# EAGLE library part ICS-43432 (library Microphone)
MIC MEMS DIGITAL I2S OMNI -26DB Manufacturer's datasheet <http://www.invensense.com/wp-content/uploads/2015/02/ICS-43432_DS.pdf>
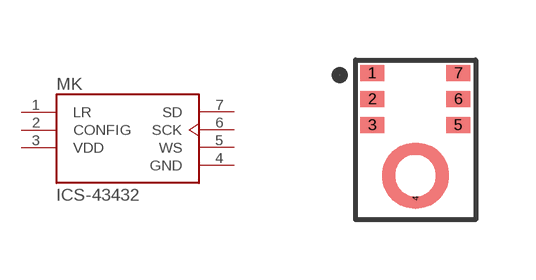
[diagram p0: symbol with the pads of ICS-43432; footprint ICS-43432]

Designator prefix MK

## ICS-43432 (CREATED_BY: PCBLayout.com; DIGIKEY_PARTNO: 1428-1053-2-ND; MANUFACTURER: TDK InvenSense; MPN: ICS-43432)  [ICS-43432]
1  LR  in
2  CONFIG  in
3  VDD  pwr
4  GND  pwr
5  WS  in
6  SCK  in
7  SD  out

## Footprint ICS-43432 (pad centres in mm)
smd 0.6 x 0.4: 1 -1.08,0.65; 2 -1.08,0; 3 -1.08,-0.65; 5 1.07,-0.65; 6 1.07,0; 7 1.07,0.65
smd 0.1 x 0.1: 4 0,-2.5